# EAGLE library part WE-FB_EFD20_SCH1 (library Wurth_Power Magnetics_WE-FB)
WE-FB Flyback Transformer suitable for LT3573/ LT3574/ LT3575/ LT3748 Characteristics easy design in solution less external components needed small board space low cost no optocoupler needed! long term reliability voltage control no aging same external parts for different output voltages easy design of custom power supply due to standard circuit and change of transformers and two components for feedback loop Isolation voltage up to 2.5 kV Applications Isolated power design Sensor interfaces Isolated telecom converters Power over Ethernet The "VALUE"shown for symbol and packaging is Ooutput Voltage 1 Output Current 1 <https://katalog.we-online.com/media/images/v2/o35283v209%20Family_we-fb_LT%20Kits_gruppe.jpg> Details see: https://katalog.we-online.com/en/pbs/WE-FB Updated by Yingchun,Shan 2019-08-27 2019 Wurth Elektronik
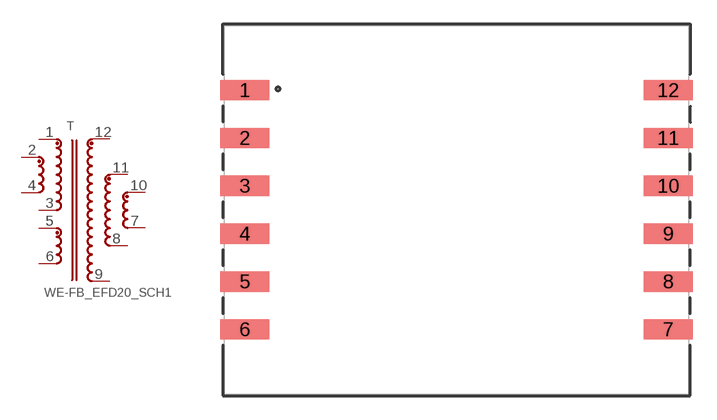
[diagram p1: symbol with the pads of WE-FB_EFD20; footprint WE-FB_EFD20]

Designator prefix T

## WE-FB_EFD20_SCH1_750311597 (DATASHEET-URL: https://katalog.we-online.com/pbs/datasheet/750311597.pdf; ISAT: 9.5A; L: 6uH; LSMIN: 0.3uH; N: 3:1; PART-NUMBER: 750311597; VALUE: 5V 6A; VI: 20-48V(DC); VT: 1500V(AC)), WE-FB_EFD20_SCH1_750311598 (DATASHEET-URL: https://katalog.we-online.com/pbs/datasheet/750311598.pdf; ISAT: 9A; L: 8.3uH; LSMIN: 0.3uH; N: 2:1; PART-NUMBER: 750311598; VALUE: 12V 2.5A; VI: 20-48V(DC); VT: 1500V(AC)), WE-FB_EFD20_SCH1_750311605 (DATASHEET-URL: https://katalog.we-online.com/pbs/datasheet/750311605.pdf; ISAT: 9.5A; L: 15uH; LSMIN: 0.5uH; N: 7:2; PART-NUMBER: 750311605; VALUE: 5V 6A; VI: 30-75V(DC); VT: 1500V(AC)), WE-FB_EFD20_SCH1_750311607 (DATASHEET-URL: https://katalog.we-online.com/pbs/datasheet/750311607.pdf; ISAT: 9.5A; L: 14uH; LSMIN: 0.5uH; N: 5:2; PART-NUMBER: 750311607; VALUE: 12V 2.5A; VI: 30-75V(DC); VT: 1500V(AC)), WE-FB_EFD20_SCH1_750311797 (DATASHEET-URL: https://katalog.we-online.com/pbs/datasheet/750311797.pdf; ISAT: 11.5A; L: 14uH; LSMIN: 0.21uH; N: 2:5:1; PART-NUMBER: 750311797; VALUE: 12V 2.5A; VI: 18-100V(DC); VT: 1500V(AC))  [WE-FB_EFD20]
1  1  pas
2  2  pas
3  4  pas
4  3  pas
5  5  pas
6  6  pas
7  9  pas
8  8  pas
9  7  pas
10  10  pas
11  11  pas
12  12  pas

## Footprint WE-FB_EFD20 (pad centres in mm)
WE-FB Flyback Transformer suitable for LT3573/ LT3574/ LT3575/ LT3748 Size: EFD20 SMD12 Pin
smd 3.05 x 1.27: 1 -13.26,7.5; 2 -13.26,4.5; 3 -13.26,1.5; 4 -13.26,-1.5; 5 -13.26,-4.5; 6 -13.26,-7.5; 7 13.26,-7.5; 8 13.26,-4.5; 9 13.26,-1.5; 10 13.26,1.5; 11 13.26,4.5; 12 13.26,7.5